# Altium footprint library SODFL1608X80N.PcbLib: 1 footprints
Each footprint in its own frame and in the unit in brackets; x right, y up, seen from the top. Pads: shape width x height; smd on the part's side, far side on the other; paste and mask are expansions set on the pad; w line width, h text height; cw(c..) or ccw(c..) is an arc to the next point about the centre after c.
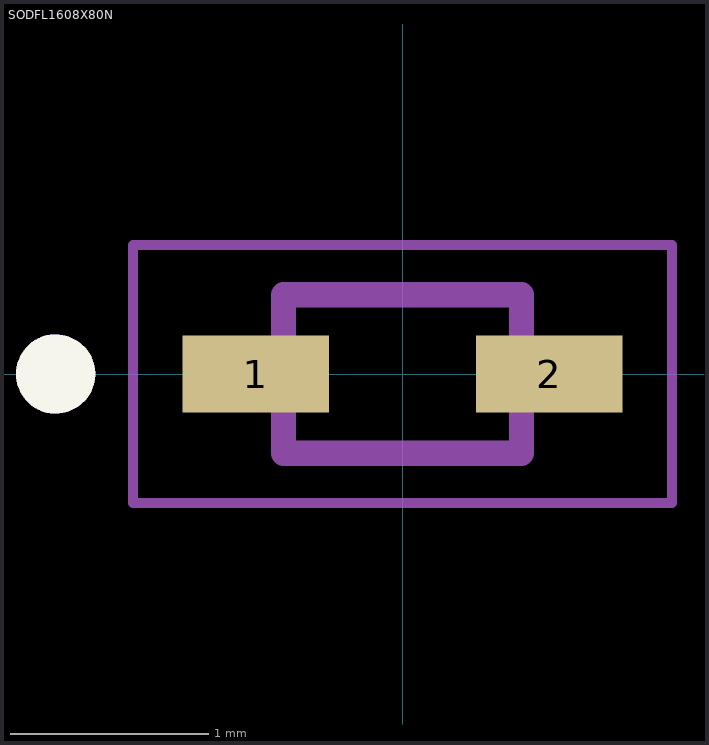
[diagram p0: the footprint, top view; thin cyan lines are the x and y axes]

## SODFL1608X80N [mm]
height 0.8
pads (2):
  rect 0.74x0.39 smd: 1(-0.74,0) 2(0.74,0)
Top Overlay:
  circle w0.2: c-1.75,0 r0.1
Assembly Top:
  circle w0.2: c-1.75,0 r0.1
  lines w0.127: -0.6,-0.4 0.6,-0.4 0.6,0.4 -0.6,0.4 -0.6,-0.4
Courtyard Top:
  lines w0.05: -1.36,-0.65 -1.36,0.65 1.36,0.65 1.36,-0.65 -1.36,-0.65